# Altium schematic symbol library 0.4 - 三极管-场效应管-可控硅.SchLib: 65 symbols
Pins are listed as number, name and electrical type; pins without a type are passive.

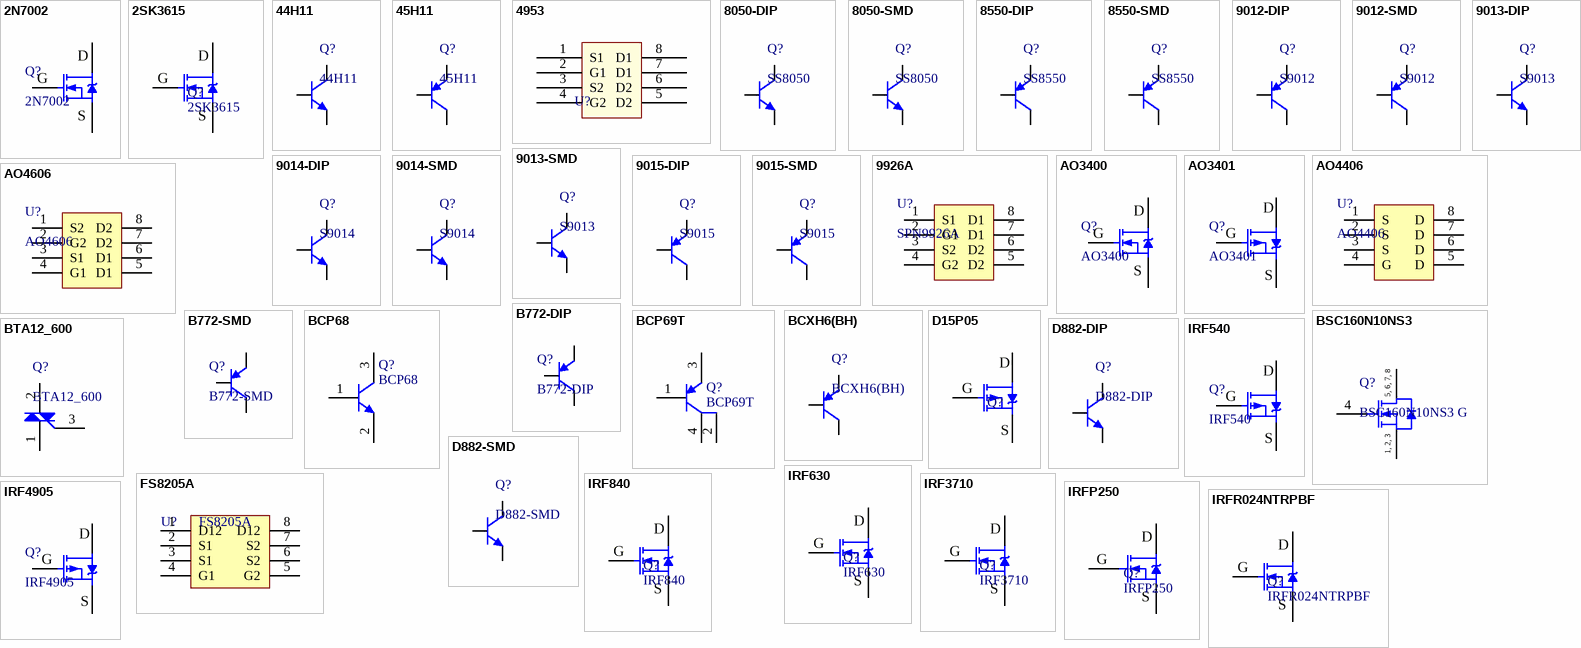
[diagram p0: symbols 2N7002 to IRFR024NTRPBF]

## 2N7002
designator Q?
N沟道 60V/115mA; BOM名称: N沟道场效应管; 8元以下特价购入的买家: 还可以联系卖家远程指导AD软件使用
footprint SOT23-3N (3x1.3x1mm(长宽高))
footprint SOT23-3L (3x1.3x1mm(长宽高))
footprint SOT23-3M (3x1.3x1mm(长宽高))
pins: 1 G, 2 S, 3 D

## 2SK3615
designator Q?
N沟场效应管; 8元以下特价购入的买家: 还可以联系卖家远程指导AD软件使用; BOM名称: N沟场效应管
footprint TO252 (252晶体管)
footprint TO220A (220，3脚晶体管)
footprint TO220B (220，3脚晶体管)
footprint TO220C (220，3脚晶体管)
pins: 1 G, 2 D, 3 S

## 44H11
designator Q?
互补功率-NPN型; 参数: 80V 8A 50W; 8元以下特价购入的买家: 还可以联系卖家远程指导AD软件使用; BOM名称: 互补功率-NPN型
footprint TO252 (252晶体管)
footprint TO251A (251，3脚晶体管)
footprint TO251B (251，3脚晶体管)
pins: 1 B, 2 C, 3 E

## 45H11
designator Q?
互补功率-PNP型; 参数: 80V 8A 50W; 8元以下特价购入的买家: 还可以联系卖家远程指导AD软件使用; BOM名称: 互补功率-PNP型
footprint TO252 (252晶体管)
footprint TO251A (251，3脚晶体管)
footprint TO251B (251，3脚晶体管)
pins: 1 B, 2 C, 3 E

## 4953
designator U?  (value not drawn)
双P沟道MOS管; 8元以下特价购入的买家: 还可以联系卖家远程指导AD软件使用
footprint SOP8_M (Footprint not found)
pins: 1 S1, 2 G1, 3 S2, 4 G2, 5 D2, 6 D2, 7 D1, 8 D1

## 8050-DIP
designator Q?, comment SS8050
高频放大-NPN型; 参数: 40V 1.5A 1W 100MHZ; 8元以下特价购入的买家: 还可以联系卖家远程指导AD软件使用; BOM名称: 高频放大-NPN型
footprint TO92A (TO, Flat Index; 3 In-Line, Axial Leads; Body Dia. 4.8mm; Leads 0.48 x 0.5 mm (max))
footprint TO92B (92晶体管)
pins: 1 E, 2 B, 3 C

## 8050-SMD
designator Q?, comment SS8050
高频放大-NPN型; 参数: 40V 1.5A 1W 100MHZ; 8元以下特价购入的买家: 还可以联系卖家远程指导AD软件使用; BOM名称: 高频放大-NPN型
footprint SOT23-3N (SOT23, 3-Leads, Body 2.9x1.3mm, Pitch 0.95mm, Lead Span 2.4mm, IPC Medium Density)
footprint SOT23-3L (SOT23, 3-Leads, Body 2.9x1.3mm, Pitch 0.95mm, Lead Span 2.4mm, IPC High Density)
footprint SOT23-3M (SOT23, 3-Leads, Body 2.9x1.3mm, Pitch 0.95mm, Lead Span 2.4mm, IPC Low Density)
pins: 1 B, 2 E, 3 C

## 8550-DIP
designator Q?, comment SS8550
高频放大-PNP型; 参数: 40V 1.5A 1W 100MHZ; 8元以下特价购入的买家: 还可以联系卖家远程指导AD软件使用; BOM名称: 高频放大-PNP型
footprint TO92A (TO, Flat Index; 3 In-Line, Axial Leads; Body Dia. 4.8mm; Leads 0.48 x 0.5 mm (max))
footprint TO92B (92晶体管)
pins: 1 E, 2 B, 3 C

## 8550-SMD
designator Q?, comment SS8550
高频放大-PNP型; 参数: 40V 1.5A 1W 100MHZ; 8元以下特价购入的买家: 还可以联系卖家远程指导AD软件使用; BOM名称: 高频放大-PNP型
footprint SOT23-3N (SOT23, 3-Leads, Body 2.9x1.3mm, Pitch 0.95mm, Lead Span 2.4mm, IPC Medium Density)
footprint SOT23-3L (SOT23, 3-Leads, Body 2.9x1.3mm, Pitch 0.95mm, Lead Span 2.4mm, IPC High Density)
footprint SOT23-3M (SOT23, 3-Leads, Body 2.9x1.3mm, Pitch 0.95mm, Lead Span 2.4mm, IPC Low Density)
pins: 1 B, 2 E, 3 C

## 9012-DIP
designator Q?, comment S9012
低频放大-PNP型; 参数: 50V 0.5A 0.625W; 8元以下特价购入的买家: 还可以联系卖家远程指导AD软件使用; BOM名称: 低频放大-PNP型
footprint TO92A (TO, Flat Index; 3 In-Line, Axial Leads; Body Dia. 4.8mm; Leads 0.48 x 0.5 mm (max))
footprint TO92B (92晶体管)
pins: 1 E, 2 B, 3 C

## 9012-SMD
designator Q?, comment S9012
低频放大-PNP型; 参数: 50V 0.5A 0.625W; 8元以下特价购入的买家: 还可以联系卖家远程指导AD软件使用; BOM名称: 低频放大-PNP型
footprint SOT23-3N (SOT23, 3-Leads, Body 2.9x1.3mm, Pitch 0.95mm, Lead Span 2.4mm, IPC Medium Density)
footprint SOT23-3L (SOT23, 3-Leads, Body 2.9x1.3mm, Pitch 0.95mm, Lead Span 2.4mm, IPC High Density)
footprint SOT23-3M (SOT23, 3-Leads, Body 2.9x1.3mm, Pitch 0.95mm, Lead Span 2.4mm, IPC Low Density)
pins: 1 B, 2 E, 3 C

## 9013-DIP
designator Q?, comment S9013
低频放大-NPN型; 参数: 50V 0.5A 0.625W; 8元以下特价购入的买家: 还可以联系卖家远程指导AD软件使用; BOM名称: 低频放大-NPN型
footprint TO92A (TO, Flat Index; 3 In-Line, Axial Leads; Body Dia. 4.8mm; Leads 0.48 x 0.5 mm (max))
footprint TO92B (92晶体管)
pins: 1 E, 2 B, 3 C

## 9013-SMD
designator Q?, comment S9013
低频放大-NPN型; 参数: 50V?0.5A?0.625W; 8元以下特价购入的买家: 还可以联系卖家远程指导AD软件使用; BOM名称: 低频放大-NPN型
footprint SOT23-3N (SOT23, 3-Leads, Body 2.9x1.3mm, Pitch 0.95mm, Lead Span 2.4mm, IPC Medium Density)
footprint SOT23-3L (SOT23, 3-Leads, Body 2.9x1.3mm, Pitch 0.95mm, Lead Span 2.4mm, IPC High Density)
footprint SOT23-3M (SOT23, 3-Leads, Body 2.9x1.3mm, Pitch 0.95mm, Lead Span 2.4mm, IPC Low Density)
pins: 1 B, 2 E, 3 C

## 9014-DIP
designator Q?, comment S9014
低噪放大-NPN型; 参数: 50V 0.1A 0.4W 150MHZ; 8元以下特价购入的买家: 还可以联系卖家远程指导AD软件使用; BOM名称: 低噪放大-NPN型
footprint TO92A (TO, Flat Index; 3 In-Line, Axial Leads; Body Dia. 4.8mm; Leads 0.48 x 0.5 mm (max))
footprint TO92B (92晶体管)
pins: 1 E, 2 B, 3 C

## 9014-SMD
designator Q?, comment S9014
低噪放大-NPN型; 参数: 50V 0.1A 0.4W 150MHZ; 8元以下特价购入的买家: 还可以联系卖家远程指导AD软件使用; BOM名称: 低噪放大-NPN型
footprint SOT23-3N (SOT23, 3-Leads, Body 2.9x1.3mm, Pitch 0.95mm, Lead Span 2.4mm, IPC Medium Density)
footprint SOT23-3L (SOT23, 3-Leads, Body 2.9x1.3mm, Pitch 0.95mm, Lead Span 2.4mm, IPC High Density)
footprint SOT23-3M (SOT23, 3-Leads, Body 2.9x1.3mm, Pitch 0.95mm, Lead Span 2.4mm, IPC Low Density)
pins: 1 B, 2 E, 3 C

## 9015-DIP
designator Q?, comment S9015
低噪放大-PNP型; 参数: 50V?0.1A?0.4W?150MHZ; 8元以下特价购入的买家: 还可以联系卖家远程指导AD软件使用; BOM名称: 低噪放大-PNP型
footprint TO92A (TO, Flat Index; 3 In-Line, Axial Leads; Body Dia. 4.8mm; Leads 0.48 x 0.5 mm (max))
footprint TO92B (92晶体管)
pins: 1 E, 2 B, 3 C

## 9015-SMD
designator Q?, comment S9015
低噪放大-PNP型; 参数: 50V 0.1A 0.4W 150MHZ; 8元以下特价购入的买家: 还可以联系卖家远程指导AD软件使用; BOM名称: 低噪放大-PNP型
footprint SOT23-3N (SOT23, 3-Leads, Body 2.9x1.3mm, Pitch 0.95mm, Lead Span 2.4mm, IPC Medium Density)
footprint SOT23-3L (SOT23, 3-Leads, Body 2.9x1.3mm, Pitch 0.95mm, Lead Span 2.4mm, IPC High Density)
footprint SOT23-3M (SOT23, 3-Leads, Body 2.9x1.3mm, Pitch 0.95mm, Lead Span 2.4mm, IPC Low Density)
pins: 1 B, 2 E, 3 C

## 9926A
designator U?, comment SPN9926A
组合对场效应管; 8元以下特价购入的买家: 还可以联系卖家远程指导AD软件使用; BOM名称: 组合对场效应管
footprint SOP8_L (5*6*1.8mm（长宽高）)
footprint SOP8_M (5*6*1.8mm（长宽高）)
footprint SOP8_N (5*6*1.8mm（长宽高）)
pins: 1 S1, 2 G1, 3 S2, 4 G2, 5 D2, 6 D2, 7 D1, 8 D1

## AO3400
designator Q?
N沟道 30V/4.2A; BOM名称: 场效应管; 8元以下特价购入的买家: 还可以联系卖家远程指导AD软件使用; 参数: N沟道 30V/4.2A
footprint SOT23-3N (SOT23, 3-Leads, Body 2.9x1.3mm, Pitch 0.95mm, Lead Span 2.4mm, IPC Medium Density)
footprint SOT23-3L (SOT23, 3-Leads, Body 2.9x1.3mm, Pitch 0.95mm, Lead Span 2.4mm, IPC High Density)
footprint SOT23-3M (SOT23, 3-Leads, Body 2.9x1.3mm, Pitch 0.95mm, Lead Span 2.4mm, IPC Low Density)
pins: 1 G, 2 S, 3 D

## AO3401
designator Q?
P沟道 30V/4.2A; BOM名称: 场效应管; 8元以下特价购入的买家: 还可以联系卖家远程指导AD软件使用; 参数: P沟道 30V/4.2A
footprint SOT23-3N (SOT23, 3-Leads, Body 2.9x1.3mm, Pitch 0.95mm, Lead Span 2.4mm, IPC Medium Density)
footprint SOT23-3L (SOT23, 3-Leads, Body 2.9x1.3mm, Pitch 0.95mm, Lead Span 2.4mm, IPC High Density)
footprint SOT23-3M (SOT23, 3-Leads, Body 2.9x1.3mm, Pitch 0.95mm, Lead Span 2.4mm, IPC Low Density)
pins: 1 G, 2 S, 3 D

## AO4406
designator U?
N沟道场效应管; 8元以下特价购入的买家: 还可以联系卖家远程指导AD软件使用; BOM名称: N沟道场效应管
footprint SOIC-8_150mil (封装库来自淘宝卖家 ID：黄晶宝石)
pins: 1 S, 2 S, 3 S, 4 G, 5 D, 6 D, 7 D, 8 D

## AO4606
designator U?
组合对场效应管; 8元以下特价购入的买家: 还可以联系卖家远程指导AD软件使用; BOM名称: 组合对场效应管
footprint SOP8_L (5*6*1.8mm（长宽高）)
footprint SOP8_M (5*6*1.8mm（长宽高）)
footprint SOP8_N (5*6*1.8mm（长宽高）)
pins: 1 S2, 2 G2, 3 S1, 4 G1, 5 D1, 6 D1, 7 D2, 8 D2

## B772-DIP
designator Q?
音频功放-PNP型; 参数: 40V 3A 10W; 8元以下特价购入的买家: 还可以联系卖家远程指导AD软件使用; BOM名称: 音频功放-PNP型
footprint TO126 (126晶体管)
pins: 1 E, 2 C, 3 B

## B772-SMD
designator Q?
音频功放-PNP型; 参数: 40V 3A 10W; 8元以下特价购入的买家: 还可以联系卖家远程指导AD软件使用; BOM名称: 音频功放-PNP型
footprint SOT89_N (4.6x4.3x1.6mm(长宽高))
footprint SOT89_M (4.6x4.3x1.6mm(长宽高))
footprint SOT89_L (4.6x4.3x1.6mm(长宽高))
pins: 1 B, 2 C, 3 E

## BCP68
designator Q?
NPN三极管; 8元以下特价购入的买家: 还可以联系卖家远程指导AD软件使用
footprint SOT23-3M (SOT23, 3-Leads, Body 2.9x1.3mm, Pitch 0.95mm, Lead Span 2.4mm, IPC Low Density)
pins: 1 B, 2 E, 3 C

## BCP69T
designator Q?
PNP三极管; 8元以下特价购入的买家: 还可以联系卖家远程指导AD软件使用
footprint SOT-223
pins: 1 B, 2 C, 3 E, 4

## BCXH6(BH)
designator Q?
NPN型三极管; 8元以下特价购入的买家: 还可以联系卖家远程指导AD软件使用; BOM名称: NPN型三极管
footprint SOT89_N (4.6x4.3x1.6mm(长宽高))
footprint SOT89_L (4.6x4.3x1.6mm(长宽高))
footprint SOT89_M (4.6x4.3x1.6mm(长宽高))
pins: 1 B, 2 C, 3 E

## BSC160N10NS3
designator Q?, comment BSC160N10NS3 G
N-Channel OptiMOS 3 Power-Transistor, 100 V VDS, 42 A ID, -55 to 150 degC, PG-TDSON-8-1, Reel, Green; Manufacturer: Infineon; VGS(th) (max): 3.5Â V; RthJA (max): 50 K/W; ID (max): 42Â A; RDS (on) (max): 16Â mOhm; VGS(th) (min): 2Â V; VDS (max): 100Â V; Rth: 2.1Â K/W; Green: TRUE; Ptot (max): 60Â W; Polarity: N; IDpuls (max): 168Â A; QG: 19Â nC; BOM名称: N沟场效应管; 8元以下特价购入的买家: 还可以联系卖家远程指导AD软件使用; Halogen-free: TRUE; ComponentLink3URL: http://www.infineon.com/cms/packages/SMD_-_Surface_Mounted_Devices/P-PG-TDSON/P-PG-TDSON-08-01x_2x_3.html?__locale=en; ComponentLink1URL: http://www.infineon.com/; PartNumber: BSC160N10NS3 G; ComponentLink2Description: Datasheet; PackageReference: PG-TDSON-8-1; ComponentLink2URL: http://www.infineon.com/dgdl/BSC160N10NS3+Rev2.4.pdf?folderId=db3a304313b8b5a60113cee8763b02d7&fileId=db3a30432239cccd01226040189a7f47; ComponentLink1Description: Manufacturer URL; Packing: Reel; DatasheetVersion: Rev. 2.4; RthJC (max): 2.1Â K/W; ComponentLink3Description: Package Specification; PackageDescription: 8-Pin Plastic (Green) Thin Dual Small Outline Non-Leaded Package, 5.15 x 5.9 mm Body, 1.27 mm Pitch; Mounting Technology: Surface Mount
footprint PG-TDSON-8_5x6MM (TDSON, 8-Leads, Body 6.15x5.15mm, Pitch 1.27mm)
pins: 1 SOURCE, 2 SOURCE, 3 SOURCE, 4 GATE, 5 DRAIN, 6 DRAIN, 7 DRAIN, 8 DRAIN
text: 5, 6, 7, 8; 1, 2, 3

## BTA12_600
designator Q?
双向可控硅; 8元以下特价购入的买家: 还可以联系卖家远程指导AD软件使用; BOM名称: 双向可控硅
footprint TO220A (220，3脚晶体管)
footprint TO220B (220，3脚晶体管)
footprint TO252 (252晶体管)
footprint TO220C (220，3脚晶体管)
pins: 1 A1, 2 A2, 3 G

## D15P05
designator Q?  (value not drawn)
P沟道 50V/15A; BOM名称: P沟道场效应管; 8元以下特价购入的买家: 还可以联系卖家远程指导AD软件使用
footprint TO252 (252晶体管)
footprint TO220A (220，3脚晶体管)
footprint TO220B (220，3脚晶体管)
footprint TO220C (220，3脚晶体管)
pins: 1 G, 2 D, 3 S

## D882-DIP
designator Q?
音频功放-NPN型; 参数: 40V 3A 30W; 8元以下特价购入的买家: 还可以联系卖家 远程指导AD软件使用; BOM名称: 音频功放-NPN型
footprint TO126 (126晶体管)
pins: 1 E, 2 C, 3 B

## D882-SMD
designator Q?
音频功放-NPN型; 参数: 40V 3A 30W; 8元以下特价购入的买家: 还可以联系卖家 远程指导AD软件使用; BOM名称: 音频功放-NPN型
footprint SOT89_N (4.6x4.3x1.6mm(长宽高))
footprint SOT89_L (4.6x4.3x1.6mm(长宽高))
footprint SOT89_M (4.6x4.3x1.6mm(长宽高))
footprint TO252 (252晶体管)
pins: 1 B, 2 C, 3 E

## FS8205A
designator U?
锂电池保护板用的MOS管; BOM名称: 场效应管; 8元以下特价购入的买家: 还可以联系卖家 远程指导AD软件使用
footprint TSSOP8_N (SSOP-8_L3.0-W4.4-H1.0-LS6.4-P0.65)
footprint TSSOP8_L (TSSOP-8_L3.0-W4.4-H1.0-LS6.4-P0.65)
footprint TSSOP8_M (TSSOP-8_L3.0-W4.4-H1.0-LS6.4-P0.65)
pins: 1 D12, 2 S1, 3 S1, 4 G1, 5 G2, 6 S2, 7 S2, 8 D12

## IRF540
designator Q?
P沟道 100V/33A; BOM名称: P沟场效应管; 8元以下特价购入的买家: 还可以联系卖家 远程指导AD软件使用
footprint TO263-3A (263，3脚晶体管)
footprint TO263-3B (263，3脚晶体管)
pins: 1 G, 2 D, 3 S

## IRF630
designator Q?
N沟道 200V/9.2A; BOM名称: N沟场效应管; 8元以下特价购入的买家: 还可以联系卖家 远程指导AD软件使用
footprint TO220A (220，3脚晶体管)
footprint TO220B (220，3脚晶体管)
footprint TO220C (220，3脚晶体管)
pins: 1 G, 2 D, 3 S

## IRF840
designator Q?
N沟道 400V/8A; BOM名称: N沟场效应管; 8元以下特价购入的买家: 还可以联系卖家 远程指导AD软件使用
footprint TO220A (220，3脚晶体管)
footprint TO220B (220，3脚晶体管)
footprint TO220C (220，3脚晶体管)
pins: 1 G, 2 D, 3 S

## IRF3710
designator Q?
N沟道 100V/57A; BOM名称: N沟场效应管; 8元以下特价购入的买家: 还可以联系卖家 远程指导AD软件使用
footprint TO252 (252晶体管)
footprint TO220A (220，3脚晶体管)
footprint TO220B (220，3脚晶体管)
footprint TO220C (220，3脚晶体管)
pins: 1 G, 2 D, 3 S

## IRF4905
designator Q?
P沟道 -55V/-74A; BOM名称: P沟场效应管; 8元以下特价购入的买家: 还可以联系卖家 远程指导AD软件使用
footprint TO220A (220，3脚晶体管  封装库来自淘宝卖家 ID：黄晶宝石)
footprint TO220B (220，3脚晶体管  封装库来自淘宝卖家 ID：黄晶宝石)
footprint TO220C (220，3脚晶体管  封装库来自淘宝卖家 ID：黄晶宝石)
pins: 1 G, 2 D, 3 S

## IRFP250
designator Q?
N沟道 200V/30A; BOM名称: 功率型N沟场效应管; 8元以下特价购入的买家: 还可以联系卖家 远程指导AD软件使用
footprint TO247A (247，3脚立式封装)
footprint TO247b (247，3脚卧式封装)
pins: 1 G, 2 D, 3 S

## IRFR024NTRPBF
designator Q?
N沟道 55V/17A; BOM名称: N沟场效应管; 参数: 55V,17A,75mΩ@10V; 8元以下特价购入的买家: 还可以联系卖家 远程指导AD软件使用
footprint TO252 (252晶体管)
pins: 1 G, 2 D, 3 S

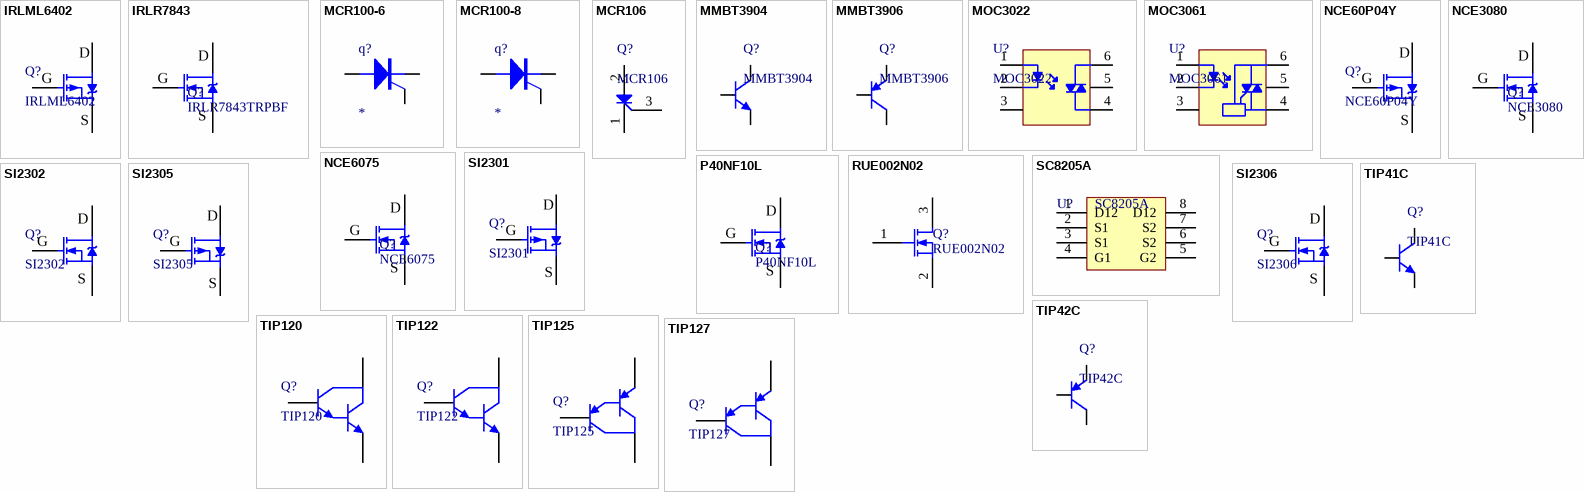
[diagram p1: symbols IRLML6402 to TIP127]

## IRLML6402
designator Q?
P沟道 -20V/-3.7A; BOM名称: P沟道场效应管; 8元以下特价购入的买家: 还可以联系卖家 远程指导AD软件使用
footprint SOT23-3N (SOT23, 3-Leads, Body 2.9x1.3mm, Pitch 0.95mm, Lead Span 2.4mm, IPC Medium Density)
footprint SOT23-3L (SOT23, 3-Leads, Body 2.9x1.3mm, Pitch 0.95mm, Lead Span 2.4mm, IPC High Density)
footprint SOT23-3M (SOT23, 3-Leads, Body 2.9x1.3mm, Pitch 0.95mm, Lead Span 2.4mm, IPC Low Density)
pins: 1 G, 2 D, 3 S

## IRLR7843
designator Q?, comment IRLR7843TRPBF
N沟道 30V/161A; BOM名称: N沟场效应管; 8元以下特价购入的买家: 还可以联系卖家 远程指导AD软件使用
footprint TO252 (252晶体管)
pins: 1 G, 2 D, 3 S

## MCR100-6
designator q?
400V/0.8A单向可控硅; 8元以下特价购入的买家: 还可以联系卖家 远程指导AD软件使用
footprint TO92 (TO, Flat Index; 3 In-Line, Axial Leads; Body Dia. 4.8mm; Leads 0.48 x 0.5 mm (max))
pins: 1 A, 2 G, 3 K
1 alternate drawing of the same symbol

## MCR100-8
designator q?
600V/0.8A单向可控硅; 8元以下特价购入的买家: 还可以联系卖家 远程指导AD软件使用
footprint TO92 (TO, Flat Index; 3 In-Line, Axial Leads; Body Dia. 4.8mm; Leads 0.48 x 0.5 mm (max))
pins: 1 K, 2 G, 3 A
1 alternate drawing of the same symbol

## MCR106
designator Q?
4A/600V单向可控硅; BOM名称: 单向可控硅; 8元以下特价购入的买家: 还可以联系卖家 远程指导AD软件使用
footprint TO126 (126晶体管)
pins: 1 K, 2 A, 3 G

## MMBT3904
designator Q?
高频放大-NPN型; 参数: 40V 0.2A 0.3W 300MHZ; 8元以下特价购入的买家: 还可以联系卖家 远程指导AD软件使用; BOM名称: 高频放大-NPN型
footprint SOT23-3N (SOT23, 3-Leads, Body 2.9x1.3mm, Pitch 0.95mm, Lead Span 2.4mm, IPC Medium Density)
footprint SOT23-3L (SOT23, 3-Leads, Body 2.9x1.3mm, Pitch 0.95mm, Lead Span 2.4mm, IPC High Density)
footprint SOT23-3M (SOT23, 3-Leads, Body 2.9x1.3mm, Pitch 0.95mm, Lead Span 2.4mm, IPC Low Density)
pins: 1 B, 2 E, 3 C

## MMBT3906
designator Q?
高频放大-PNP型; 参数: 40V 0.2A 1W 100MHZ; 8元以下特价购入的买家: 还可以联系卖家 远程指导AD软件使用; BOM名称: 高频放大-PNP型
footprint SOT23-3N (SOT23, 3-Leads, Body 2.9x1.3mm, Pitch 0.95mm, Lead Span 2.4mm, IPC Medium Density)
footprint SOT23-3L (SOT23, 3-Leads, Body 2.9x1.3mm, Pitch 0.95mm, Lead Span 2.4mm, IPC High Density)
footprint SOT23-3M (SOT23, 3-Leads, Body 2.9x1.3mm, Pitch 0.95mm, Lead Span 2.4mm, IPC Low Density)
pins: 1 B, 2 E, 3 C

## MOC3022
designator U?
光可控硅; 8元以下特价购入的买家: 还可以联系卖家 远程指导AD软件使用; BOM名称: 光可控硅
footprint DIP6-300 (6.8*7.6*3.8(长宽高）)
pins: 1 +, 2 -, 3 NC, 4, 5, 6

## MOC3061
designator U?
零点触发光可控硅; BOM名称: 光可控硅; 8元以下特价购入的买家: 还可以联系卖家 远程指导AD软件使用
footprint DIP6-300 (6.8*7.6*3.8(长宽高）)
pins: 1 +, 2 -, 3 NC, 4, 5, 6

## NCE60P04Y
designator Q?
P沟道 -60V/-4A; BOM名称: P沟道场效应管; 8元以下特价购入的买家: 还可以联系卖家 远程指导AD软件使用
footprint SOT23-3N (3x1.3x1mm(长宽高))
footprint SOT23-3L (3x1.3x1mm(长宽高))
footprint SOT23-3M (3x1.3x1mm(长宽高))
pins: 1 G, 2 D, 3 S

## NCE3080
designator Q?
N沟道 30V/80A; BOM名称: N沟场效应管; 8元以下特价购入的买家: 还可以联系卖家 远程指导AD软件使用
footprint TO252 (252晶体管)
pins: 1 G, 2 D, 3 S

## NCE6075
designator Q?
N沟道 60V75A; BOM名称: N沟场效应管; 参数: 60V,75A,11.5mΩ@10V; 8元以下特价购入的买家: 还可以联系卖家 远程指导AD软件使用
footprint TO252 (252晶体管)
pins: 1 G, 2 D, 3 S

## P40NF10L
designator Q?
N沟道 100V/40A; BOM名称: N沟场效应管; 8元以下特价购入的买家: 还可以联系卖家 远程指导AD软件使用
footprint TO252 (252晶体管)
footprint TO220A (220，3脚晶体管)
footprint TO220B (220，3脚晶体管)
footprint TO220C (220，3脚晶体管)
pins: 1 G, 2 D, 3 S

## RUE002N02
designator Q?
1.2V驱动N沟道MOS管; 8元以下特价购入的买家: 还可以联系卖家 远程指导AD软件使用
footprint SOT523 (封装库来自淘宝卖家 ID：黄晶宝石)
pins: 1 G, 2 S, 3 D

## SC8205A
designator U?
N沟道 6A/20V锂电池保护板用的MOS管; BOM名称: 场效应管; 8元以下特价购入的买家: 还可以联系卖家 远程指导AD软件使用
footprint TSSOP8_N (SSOP-8_L3.0-W4.4-H1.0-LS6.4-P0.65)
footprint TSSOP8_L (TSSOP-8_L3.0-W4.4-H1.0-LS6.4-P0.65)
footprint TSSOP8_M (TSSOP-8_L3.0-W4.4-H1.0-LS6.4-P0.65)
pins: 1 D12, 2 S1, 3 S1, 4 G1, 5 G2, 6 S2, 7 S2, 8 D12

## SI2301
designator Q?
P沟道 20V/2.8A; BOM名称: P沟道场效应管; 8元以下特价购入的买家: 还可以联系卖家 远程指导AD软件使用
footprint SOT23-3N (3x1.3x1mm(长宽高))
footprint SOT23-3L (3x1.3x1mm(长宽高))
footprint SOT23-3M (3x1.3x1mm(长宽高))
pins: 1 G, 2 S, 3 D

## SI2302
designator Q?
N沟道 20V/3A; BOM名称: N沟道场效应管; 8元以下特价购入的买家: 还可以联系卖家 远程指导AD软件使用
footprint SOT23-3N (3x1.3x1mm(长宽高))
footprint SOT23-3L (3x1.3x1mm(长宽高))
footprint SOT23-3M (3x1.3x1mm(长宽高))
pins: 1 G, 2 S, 3 D

## SI2305
designator Q?
P沟道 20V/2.8A; BOM名称: P沟道场效应管; 8元以下特价购入的买家: 还可以联系卖家 远程指导AD软件使用
footprint SOT23-3N (3x1.3x1mm(长宽高))
footprint SOT23-3L (3x1.3x1mm(长宽高))
footprint SOT23-3M (3x1.3x1mm(长宽高))
pins: 1 G, 2 S, 3 D

## SI2306
designator Q?
N沟道 30V/3.16A; BOM名称: N沟道场效应管; 8元以下特价购入的买家: 还可以联系卖家 远程指导AD软件使用
footprint SOT23-3N (3x1.3x1mm(长宽高))
footprint SOT23-3L (3x1.3x1mm(长宽高))
footprint SOT23-3M (3x1.3x1mm(长宽高))
pins: 1 G, 2 S, 3 D

## TIP41C
designator Q?
NPN型中功率三极管; BOM名称: 互补功率-NPN型; 参数: 100V 6A 65W; 8元以下特价购入的买家: 还可以联系卖家 远程指导AD软件使用
footprint TO220A (220，3脚晶体管)
footprint TO220B (220，3脚晶体管)
footprint TO220C (220，3脚晶体管)
pins: 1 B, 2 C, 3 E

## TIP42C
designator Q?
PNP型中功率三极管; BOM名称: 互补功率-PNP型; 参数: 100V 6A 65W; 8元以下特价购入的买家: 还可以联系卖家 远程指导AD软件使用
footprint TO220A (220，3脚晶体管)
footprint TO220B (220，3脚晶体管)
footprint TO220C (220，3脚晶体管)
pins: 1 B, 2 C, 3 E

## TIP120
designator Q?
NPN型达林顿晶体管; 参数: Vceo:60V , Pd:65W，Ic:5A; 8元以下特价购入的买家: 还可以联系卖家 远程指导AD软件使用; BOM名称: NPN型达林顿晶体管
footprint TO-220 (220，3脚晶体管    封装库来自淘宝卖家 ID：黄晶宝石)
pins: 1 B, 2 C, 3 E

## TIP122
designator Q?
NPN型达林顿晶体管; 参数: Vceo:100V , Pd:65W，Ic:5A; 8元以下特价购入的买家: 还可以联系卖家 远程指导AD软件使用; BOM名称: NPN型达林顿晶体管
footprint TO-220 (220，3脚晶体管    封装库来自淘宝卖家 ID：黄晶宝石)
pins: 1 B, 2 C, 3 E

## TIP125
designator Q?
PNP型达林顿晶体管; 参数: Vceo:60V , Pd:65W，Ic:5A; 8元以下特价购入的买家: 还可以联系卖家 远程指导AD软件使用; BOM名称: PNP型达林顿晶体管
footprint TO-220 (220，3脚晶体管    封装库来自淘宝卖家 ID：黄晶宝石)
pins: 1 B, 2 C, 3 E

## TIP127
designator Q?
PNP型达林顿晶体管; 参数: Vceo:100V , Pd:65W，Ic:5A; 8元以下特价购入的买家: 还可以联系卖家 远程指导AD软件使用; BOM名称: PNP型达林顿晶体管
footprint TO-220 (220，3脚晶体管    封装库来自淘宝卖家 ID：黄晶宝石)
pins: 1 B, 2 C, 3 E